# Altium footprint library Jumper (Slide Switch).PcbLib: 1 footprints
Each footprint in its own frame and in the unit in brackets; x right, y up, seen from the top. Pads: shape width x height; smd on the part's side, far side on the other; paste and mask are expansions set on the pad; w line width, h text height; cw(c..) or ccw(c..) is an arc to the next point about the centre after c.
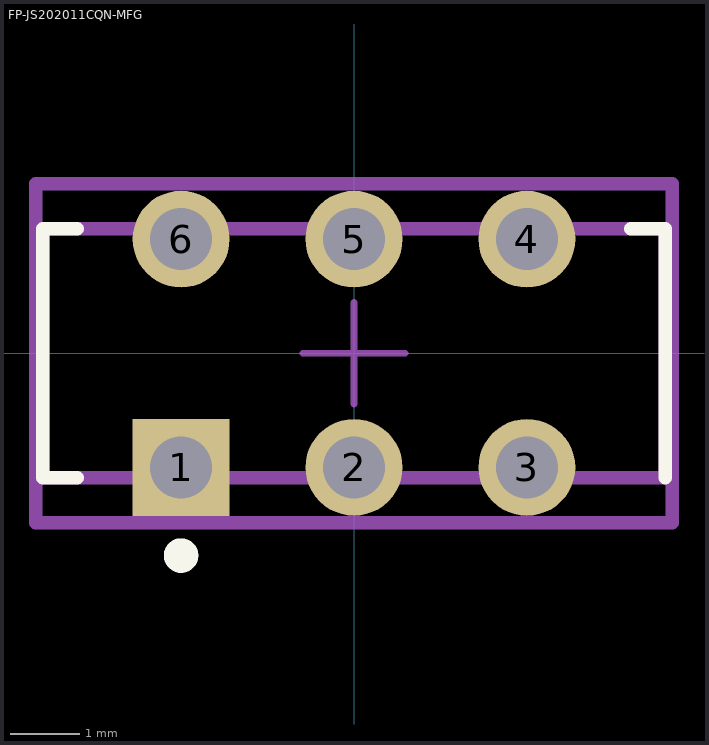
[diagram p0: the footprint, top view; thin cyan lines are the x and y axes]

## FP-JS202011CQN-MFG [mm]
pads (6):
  rect 1.4x1.4 hole 0.9 paste-2539.97 mask+0: 1(-2.5,-1.65)
  round 1.4 hole 0.9 paste-2539.97 mask+0: 2(0,-1.65) 3(2.5,-1.65) 4(2.5,1.65) 5(0,1.65) 6(-2.5,1.65)
Top Overlay:
  circle w0.25: c-2.5,-2.925 r0.125
  lines w0.2: -4,-1.8 -4.5,-1.8 -4.5,1.8 -4,1.8 ; 4,1.8 4.5,1.8 4.5,-1.8
Top Assembly:
  lines w0.2: -4.6,-2.45 -4.6,2.45 4.6,2.45 4.6,-2.45 -4.6,-2.45
  text ".Designator" at 0,0 h1
Top 3D Body:
  lines w0.2: -4.5,-1.8 -4.5,1.8 4.5,1.8 4.5,-1.8 -4.5,-1.8
Top Courtyard:
  lines w0.2: -4.6,-2.45 -4.6,2.45 4.6,2.45 4.6,-2.45 -4.6,-2.45
Top Component Center:
  lines w0.1: -0.735,0 0.735,0 ; 0,-0.735 0,0.735
3D body "Switch_C&K_JS202011CQN_eec.STEP": height 0.25, standoff 0, extent -4.6,-2.45 4.6,2.45